# EAGLE library part TDA8542TS (library Audio-Power-amplifier)
2 ´ 0.7 W BTL audio amplifier
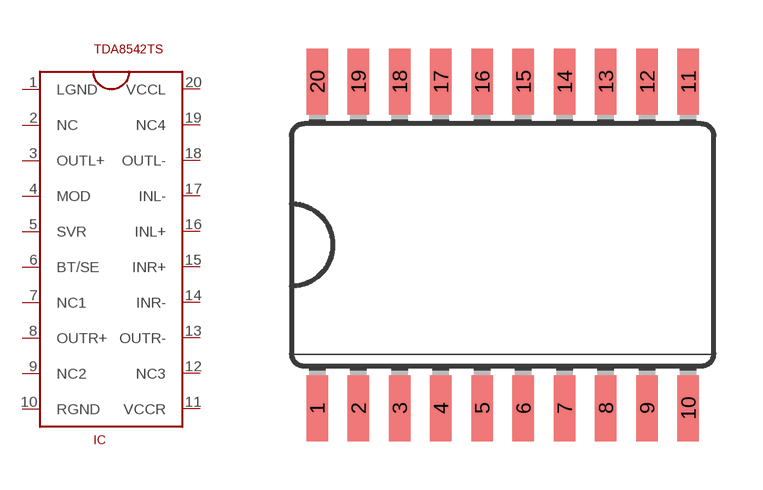
[diagram p36: symbol with the pads of SOT266-1; footprint SOT266-1]

Designator prefix IC

## TDA8542TS  [SOT266-1]
1  LGND  pwr
2  NC  nc
3  OUTL+  out
4  MOD
5  SVR
6  BT/SE
7  NC1  nc
8  OUTR+  out
9  NC2  nc
10  RGND  pwr
11  VCCR  pwr
12  NC3  nc
13  OUTR-  out
14  INR-  in
15  INR+  in
16  INL+  in
17  INL-  in
18  OUTL-  out
19  NC4  nc
20  VCCL  pwr

## Footprint SOT266-1 (pad centres in mm)
Small Outline Package
smd 0.66 x 2.032: 1 -5.715,-5.029; 2 -4.445,-5.029; 3 -3.175,-5.029; 4 -1.905,-5.029; 5 -0.635,-5.029; 6 0.635,-5.029; 7 1.905,-5.029; 8 3.175,-5.029; 9 4.445,-5.029; 10 5.715,-5.029; 11 5.715,5.029; 12 4.445,5.029; 13 3.175,5.029; 14 1.905,5.029; 15 0.635,5.029; 16 -0.635,5.029; 17 -1.905,5.029; 18 -3.175,5.029; 19 -4.445,5.029; 20 -5.715,5.029